# Altium schematic symbol library SCH - MCU - STM32 - ST MICROELECTRONICS STM32F091VCHX UFBGA100.SchLib: 1 symbol
Pins are listed as number, name and electrical type; pins without a type are passive.

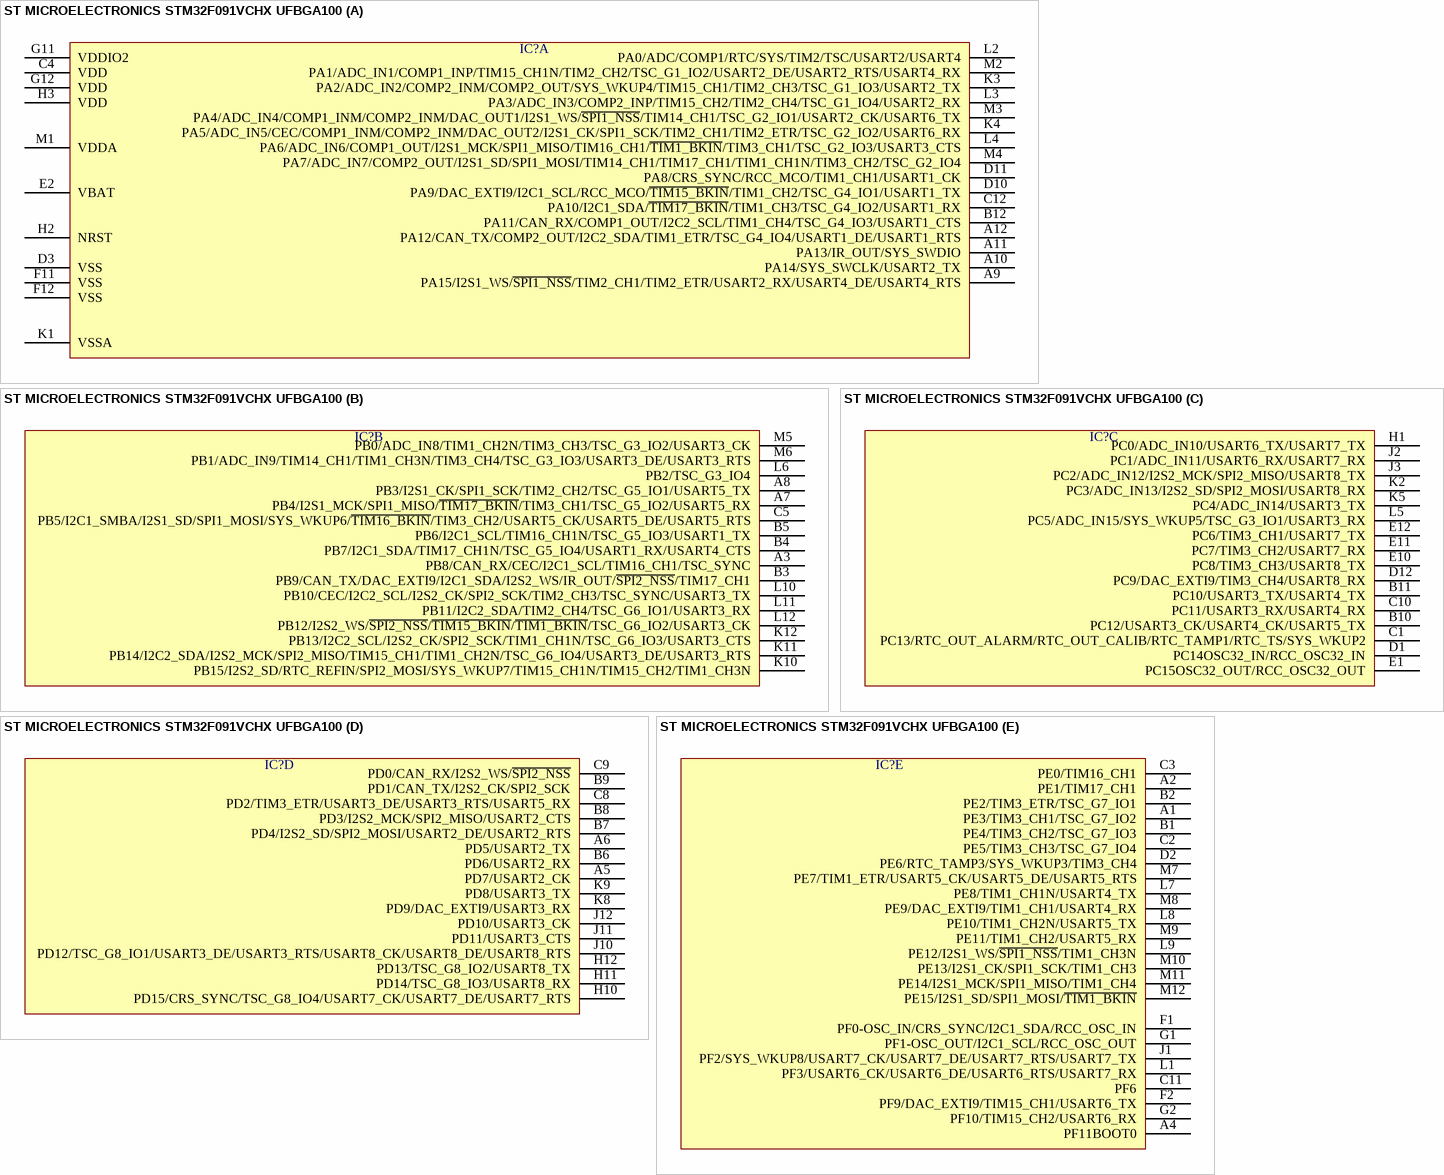
[diagram p0: symbol ST MICROELECTRONICS STM32F091VCHX UFBGA100]

## ST MICROELECTRONICS STM32F091VCHX UFBGA100
designator IC?  (value not drawn)
part A pins: A9 PA15/I2S1_WS/~{SPI1_NSS}/TIM2_CH1/TIM2_ETR/USART2_RX/USART4_DE/USART4_RTS, A10 PA14/SYS_SWCLK/USART2_TX, A11 PA13/IR_OUT/SYS_SWDIO, A12 PA12/CAN_TX/COMP2_OUT/I2C2_SDA/TIM1_ETR/TSC_G4_IO4/USART1_DE/USART1_RTS, B12 PA11/CAN_RX/COMP1_OUT/I2C2_SCL/TIM1_CH4/TSC_G4_IO3/USART1_CTS, C4 VDD, C12 PA10/I2C1_SDA/~{TIM17_BKIN}/TIM1_CH3/TSC_G4_IO2/USART1_RX, D3 VSS, D10 PA9/DAC_EXTI9/I2C1_SCL/RCC_MCO/~{TIM15_BKIN}/TIM1_CH2/TSC_G4_IO1/USART1_TX, D11 PA8/CRS_SYNC/RCC_MCO/TIM1_CH1/USART1_CK, E2 VBAT, F11 VSS, F12 VSS, G11 VDDIO2, G12 VDD, H2 NRST, H3 VDD, K1 VSSA, K3 PA2/ADC_IN2/COMP2_INM/COMP2_OUT/SYS_WKUP4/TIM15_CH1/TIM2_CH3/TSC_G1_IO3/USART2_TX, K4 PA5/ADC_IN5/CEC/COMP1_INM/COMP2_INM/DAC_OUT2/I2S1_CK/SPI1_SCK/TIM2_CH1/TIM2_ETR/TSC_G2_IO2/USART6_RX, L2 PA0/ADC/COMP1/RTC/SYS/TIM2/TSC/USART2/USART4, L3 PA3/ADC_IN3/COMP2_INP/TIM15_CH2/TIM2_CH4/TSC_G1_IO4/USART2_RX, L4 PA6/ADC_IN6/COMP1_OUT/I2S1_MCK/SPI1_MISO/TIM16_CH1/~{TIM1_BKIN}/TIM3_CH1/TSC_G2_IO3/USART3_CTS, M1 VDDA, M2 PA1/ADC_IN1/COMP1_INP/TIM15_CH1N/TIM2_CH2/TSC_G1_IO2/USART2_DE/USART2_RTS/USART4_RX, M3 PA4/ADC_IN4/COMP1_INM/COMP2_INM/DAC_OUT1/I2S1_WS/~{SPI1_NSS}/TIM14_CH1/TSC_G2_IO1/USART2_CK/USART6_TX, M4 PA7/ADC_IN7/COMP2_OUT/I2S1_SD/SPI1_MOSI/TIM14_CH1/TIM17_CH1/TIM1_CH1N/TIM3_CH2/TSC_G2_IO4
part B pins: A3 PB8/CAN_RX/CEC/I2C1_SCL/TIM16_CH1/TSC_SYNC, A7 PB4/I2S1_MCK/SPI1_MISO/~{TIM17_BKIN}/TIM3_CH1/TSC_G5_IO2/USART5_RX, A8 PB3/I2S1_CK/SPI1_SCK/TIM2_CH2/TSC_G5_IO1/USART5_TX, B3 PB9/CAN_TX/DAC_EXTI9/I2C1_SDA/I2S2_WS/IR_OUT/~{SPI2_NSS}/TIM17_CH1, B4 PB7/I2C1_SDA/TIM17_CH1N/TSC_G5_IO4/USART1_RX/USART4_CTS, B5 PB6/I2C1_SCL/TIM16_CH1N/TSC_G5_IO3/USART1_TX, C5 PB5/I2C1_SMBA/I2S1_SD/SPI1_MOSI/SYS_WKUP6/~{TIM16_BKIN}/TIM3_CH2/USART5_CK/USART5_DE/USART5_RTS, K10 PB15/I2S2_SD/RTC_REFIN/SPI2_MOSI/SYS_WKUP7/TIM15_CH1N/TIM15_CH2/TIM1_CH3N, K11 PB14/I2C2_SDA/I2S2_MCK/SPI2_MISO/TIM15_CH1/TIM1_CH2N/TSC_G6_IO4/USART3_DE/USART3_RTS, K12 PB13/I2C2_SCL/I2S2_CK/SPI2_SCK/TIM1_CH1N/TSC_G6_IO3/USART3_CTS, L6 PB2/TSC_G3_IO4, L10 PB10/CEC/I2C2_SCL/I2S2_CK/SPI2_SCK/TIM2_CH3/TSC_SYNC/USART3_TX, L11 PB11/I2C2_SDA/TIM2_CH4/TSC_G6_IO1/USART3_RX, L12 PB12/I2S2_WS/~{SPI2_NSS}/~{TIM15_BKIN}/~{TIM1_BKIN}/TSC_G6_IO2/USART3_CK, M5 PB0/ADC_IN8/TIM1_CH2N/TIM3_CH3/TSC_G3_IO2/USART3_CK, M6 PB1/ADC_IN9/TIM14_CH1/TIM1_CH3N/TIM3_CH4/TSC_G3_IO3/USART3_DE/USART3_RTS
part C pins: B10 PC12/USART3_CK/USART4_CK/USART5_TX, B11 PC10/USART3_TX/USART4_TX, C1 PC13/RTC_OUT_ALARM/RTC_OUT_CALIB/RTC_TAMP1/RTC_TS/SYS_WKUP2, C10 PC11/USART3_RX/USART4_RX, D1 PC14OSC32_IN/RCC_OSC32_IN, D12 PC9/DAC_EXTI9/TIM3_CH4/USART8_RX, E1 PC15OSC32_OUT/RCC_OSC32_OUT, E10 PC8/TIM3_CH3/USART8_TX, E11 PC7/TIM3_CH2/USART7_RX, E12 PC6/TIM3_CH1/USART7_TX, H1 PC0/ADC_IN10/USART6_TX/USART7_TX, J2 PC1/ADC_IN11/USART6_RX/USART7_RX, J3 PC2/ADC_IN12/I2S2_MCK/SPI2_MISO/USART8_TX, K2 PC3/ADC_IN13/I2S2_SD/SPI2_MOSI/USART8_RX, K5 PC4/ADC_IN14/USART3_TX, L5 PC5/ADC_IN15/SYS_WKUP5/TSC_G3_IO1/USART3_RX
part D pins: A5 PD7/USART2_CK, A6 PD5/USART2_TX, B6 PD6/USART2_RX, B7 PD4/I2S2_SD/SPI2_MOSI/USART2_DE/USART2_RTS, B8 PD3/I2S2_MCK/SPI2_MISO/USART2_CTS, B9 PD1/CAN_TX/I2S2_CK/SPI2_SCK, C8 PD2/TIM3_ETR/USART3_DE/USART3_RTS/USART5_RX, C9 PD0/CAN_RX/I2S2_WS/~{SPI2_NSS}, H10 PD15/CRS_SYNC/TSC_G8_IO4/USART7_CK/USART7_DE/USART7_RTS, H11 PD14/TSC_G8_IO3/USART8_RX, H12 PD13/TSC_G8_IO2/USART8_TX, J10 PD12/TSC_G8_IO1/USART3_DE/USART3_RTS/USART8_CK/USART8_DE/USART8_RTS, J11 PD11/USART3_CTS, J12 PD10/USART3_CK, K8 PD9/DAC_EXTI9/USART3_RX, K9 PD8/USART3_TX
part E pins: A1 PE3/TIM3_CH1/TSC_G7_IO2, A2 PE1/TIM17_CH1, A4 PF11BOOT0, B1 PE4/TIM3_CH2/TSC_G7_IO3, B2 PE2/TIM3_ETR/TSC_G7_IO1, C2 PE5/TIM3_CH3/TSC_G7_IO4, C3 PE0/TIM16_CH1, C11 PF6, D2 PE6/RTC_TAMP3/SYS_WKUP3/TIM3_CH4, F1 PF0-OSC_IN/CRS_SYNC/I2C1_SDA/RCC_OSC_IN, F2 PF9/DAC_EXTI9/TIM15_CH1/USART6_TX, G1 PF1-OSC_OUT/I2C1_SCL/RCC_OSC_OUT, G2 PF10/TIM15_CH2/USART6_RX, J1 PF2/SYS_WKUP8/USART7_CK/USART7_DE/USART7_RTS/USART7_TX, L1 PF3/USART6_CK/USART6_DE/USART6_RTS/USART7_RX, L7 PE8/TIM1_CH1N/USART4_TX, L8 PE10/TIM1_CH2N/USART5_TX, L9 PE12/I2S1_WS/~{SPI1_NSS}/TIM1_CH3N, M7 PE7/TIM1_ETR/USART5_CK/USART5_DE/USART5_RTS, M8 PE9/DAC_EXTI9/TIM1_CH1/USART4_RX, M9 PE11/TIM1_CH2/USART5_RX, M10 PE13/I2S1_CK/SPI1_SCK/TIM1_CH3, M11 PE14/I2S1_MCK/SPI1_MISO/TIM1_CH4, M12 PE15/I2S1_SD/SPI1_MOSI/~{TIM1_BKIN}